# EAGLE library part AT90CAN-32-64-128 (library isystems)
AT90CAN32 AT90CAN64 AT90CAN128 Atmel AVR MCU with CAN Device Flash EEPROM RAM AT90CAN32 32K Bytes 1K Byte 2K Bytes AT90CAN64 64K Bytes 2K Byte 4K Bytes AT90CAN128 128K Bytes 4K Byte 4K Bytes • Operating Voltages: 2.7 - 5.5V • Operating temperature: Automotive (-40°C to +125°C) • Maximum Frequency: 8 MHz at 2.7V, 16 MHz at 4.5V • JTAG (IEEE std. 1149.1 Compliant) Interface • CAN Controller 2.0A & 2.0B - ISO 16845 Certified
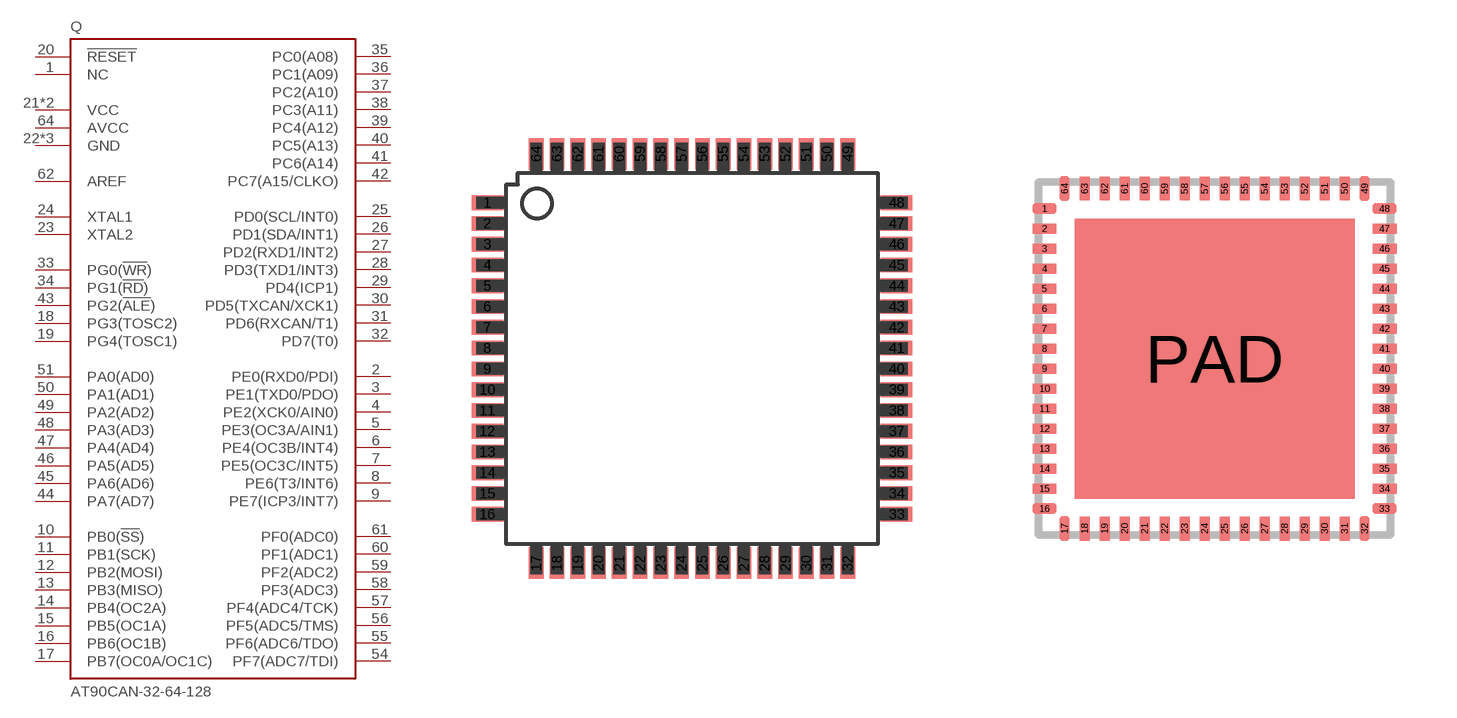
[diagram p22: symbol with the pads of TQFP64; footprints TQFP64, QFN64-9X9]

Designator prefix Q

## AT90CAN-32-64-128-15A  [TQFP64]
1  NC  nc
2  PE0(RXD0/PDI)
3  PE1(TXD0/PDO)
4  PE2(XCK0/AIN0)
5  PE3(OC3A/AIN1)
6  PE4(OC3B/INT4)
7  PE5(OC3C/INT5)
8  PE6(T3/INT6)
9  PE7(ICP3/INT7)
10  PB0(!SS!)
11  PB1(SCK)
12  PB2(MOSI)
13  PB3(MISO)
14  PB4(OC2A)
15  PB5(OC1A)
16  PB6(OC1B)
17  PB7(OC0A/OC1C)
18  PG3(TOSC2)
19  PG4(TOSC1)
20  !RESET  in
21  VCC  pwr
22  GND  pwr
23  XTAL2
24  XTAL1
25  PD0(SCL/INT0)
26  PD1(SDA/INT1)
27  PD2(RXD1/INT2)
28  PD3(TXD1/INT3)
29  PD4(ICP1)
30  PD5(TXCAN/XCK1)
31  PD6(RXCAN/T1)
32  PD7(T0)
33  PG0(!WR!)
34  PG1(!RD!)
35  PC0(A08)
36  PC1(A09)
37  PC2(A10)
38  PC3(A11)
39  PC4(A12)
40  PC5(A13)
41  PC6(A14)
42  PC7(A15/CLKO)
43  PG2(!ALE!)
44  PA7(AD7)
45  PA6(AD6)
46  PA5(AD5)
47  PA4(AD4)
48  PA3(AD3)
49  PA2(AD2)
50  PA1(AD1)
51  PA0(AD0)
52  VCC  pwr
53  GND  pwr
54  PF7(ADC7/TDI)
55  PF6(ADC6/TDO)
56  PF5(ADC5/TMS)
57  PF4(ADC4/TCK)
58  PF3(ADC3)
59  PF2(ADC2)
60  PF1(ADC1)
61  PF0(ADC0)
62  AREF  in
63  GND  pwr
64  AVCC  pwr

## AT90CAN-32-64-128-15M  [QFN64-9X9]
Pads as for TQFP64

## Footprint TQFP64 (pad centres in mm)
Thin Quad Flat Pack
smd 1.194 x 0.559: 1 -7.76,5.905; 2 -7.76,5.118; 3 -7.76,4.331; 4 -7.76,3.543; 5 -7.76,2.756; 6 -7.76,1.968; 7 -7.76,1.181; 8 -7.76,0.394; 9 -7.76,-0.394; 10 -7.76,-1.181; 11 -7.76,-1.968; 12 -7.76,-2.756; 13 -7.76,-3.543; 14 -7.76,-4.331; 15 -7.76,-5.118; 16 -7.76,-5.905; 33 7.76,-5.905; 34 7.76,-5.118; 35 7.76,-4.331; 36 7.76,-3.543; 37 7.76,-2.756; 38 7.76,-1.968; 39 7.76,-1.181; 40 7.76,-0.394; 41 7.76,0.394; 42 7.76,1.181; 43 7.76,1.968; 44 7.76,2.756; 45 7.76,3.543; 46 7.76,4.331; 47 7.76,5.118; 48 7.76,5.905
smd 0.559 x 1.194: 17 -5.905,-7.76; 18 -5.118,-7.76; 19 -4.331,-7.76; 20 -3.543,-7.76; 21 -2.756,-7.76; 22 -1.968,-7.76; 23 -1.181,-7.76; 24 -0.394,-7.76; 25 0.394,-7.76; 26 1.181,-7.76; 27 1.968,-7.76; 28 2.756,-7.76; 29 3.543,-7.76; 30 4.331,-7.76; 31 5.118,-7.76; 32 5.905,-7.76; 49 5.905,7.76; 50 5.118,7.76; 51 4.331,7.76; 52 3.543,7.76; 53 2.756,7.76; 54 1.968,7.76; 55 1.181,7.76; 56 0.394,7.76; 57 -0.394,7.76; 58 -1.181,7.76; 59 -1.968,7.76; 60 -2.756,7.76; 61 -3.543,7.76; 62 -4.331,7.76; 63 -5.118,7.76; 64 -5.905,7.76

## Footprint QFN64-9X9 (pad centres in mm)
WP Package 64-Lead QFN Multipad (9mm × 9mm) Source: http://www.linear.com ..
smd 0.6 x 0.25: 1 -4.25,3.75; 2 -4.25,3.25; 3 -4.25,2.75; 4 -4.25,2.25; 5 -4.25,1.75; 6 -4.25,1.25; 7 -4.25,0.75; 8 -4.25,0.25; 9 -4.25,-0.25; 10 -4.25,-0.75; 11 -4.25,-1.25; 12 -4.25,-1.75; 13 -4.25,-2.25; 14 -4.25,-2.75; 15 -4.25,-3.25; 16 -4.25,-3.75; 33 4.25,-3.75; 34 4.25,-3.25; 35 4.25,-2.75; 36 4.25,-2.25; 37 4.25,-1.75; 38 4.25,-1.25; 39 4.25,-0.75; 40 4.25,-0.25; 41 4.25,0.25; 42 4.25,0.75; 43 4.25,1.25; 44 4.25,1.75; 45 4.25,2.25; 46 4.25,2.75; 47 4.25,3.25; 48 4.25,3.75
smd 0.25 x 0.6: 17 -3.75,-4.25; 18 -3.25,-4.25; 19 -2.75,-4.25; 20 -2.25,-4.25; 21 -1.75,-4.25; 22 -1.25,-4.25; 23 -0.75,-4.25; 24 -0.25,-4.25; 25 0.25,-4.25; 26 0.75,-4.25; 27 1.25,-4.25; 28 1.75,-4.25; 29 2.25,-4.25; 30 2.75,-4.25; 31 3.25,-4.25; 32 3.75,-4.25; 49 3.75,4.25; 50 3.25,4.25; 51 2.75,4.25; 52 2.25,4.25; 53 1.75,4.25; 54 1.25,4.25; 55 0.75,4.25; 56 0.25,4.25; 57 -0.25,4.25; 58 -0.75,4.25; 59 -1.25,4.25; 60 -1.75,4.25; 61 -2.25,4.25; 62 -2.75,4.25; 63 -3.25,4.25; 64 -3.75,4.25
smd 7 x 7: PAD 0,0